# Altium footprint library pulseox-main-PCBLib.PcbLib: 18 footprints (part 1 of 2)
Each footprint in its own frame and in the unit in brackets; x right, y up, seen from the top. Pads: shape width x height; smd on the part's side, far side on the other; paste and mask are expansions set on the pad; w line width, h text height; cw(c..) or ccw(c..) is an arc to the next point about the centre after c.
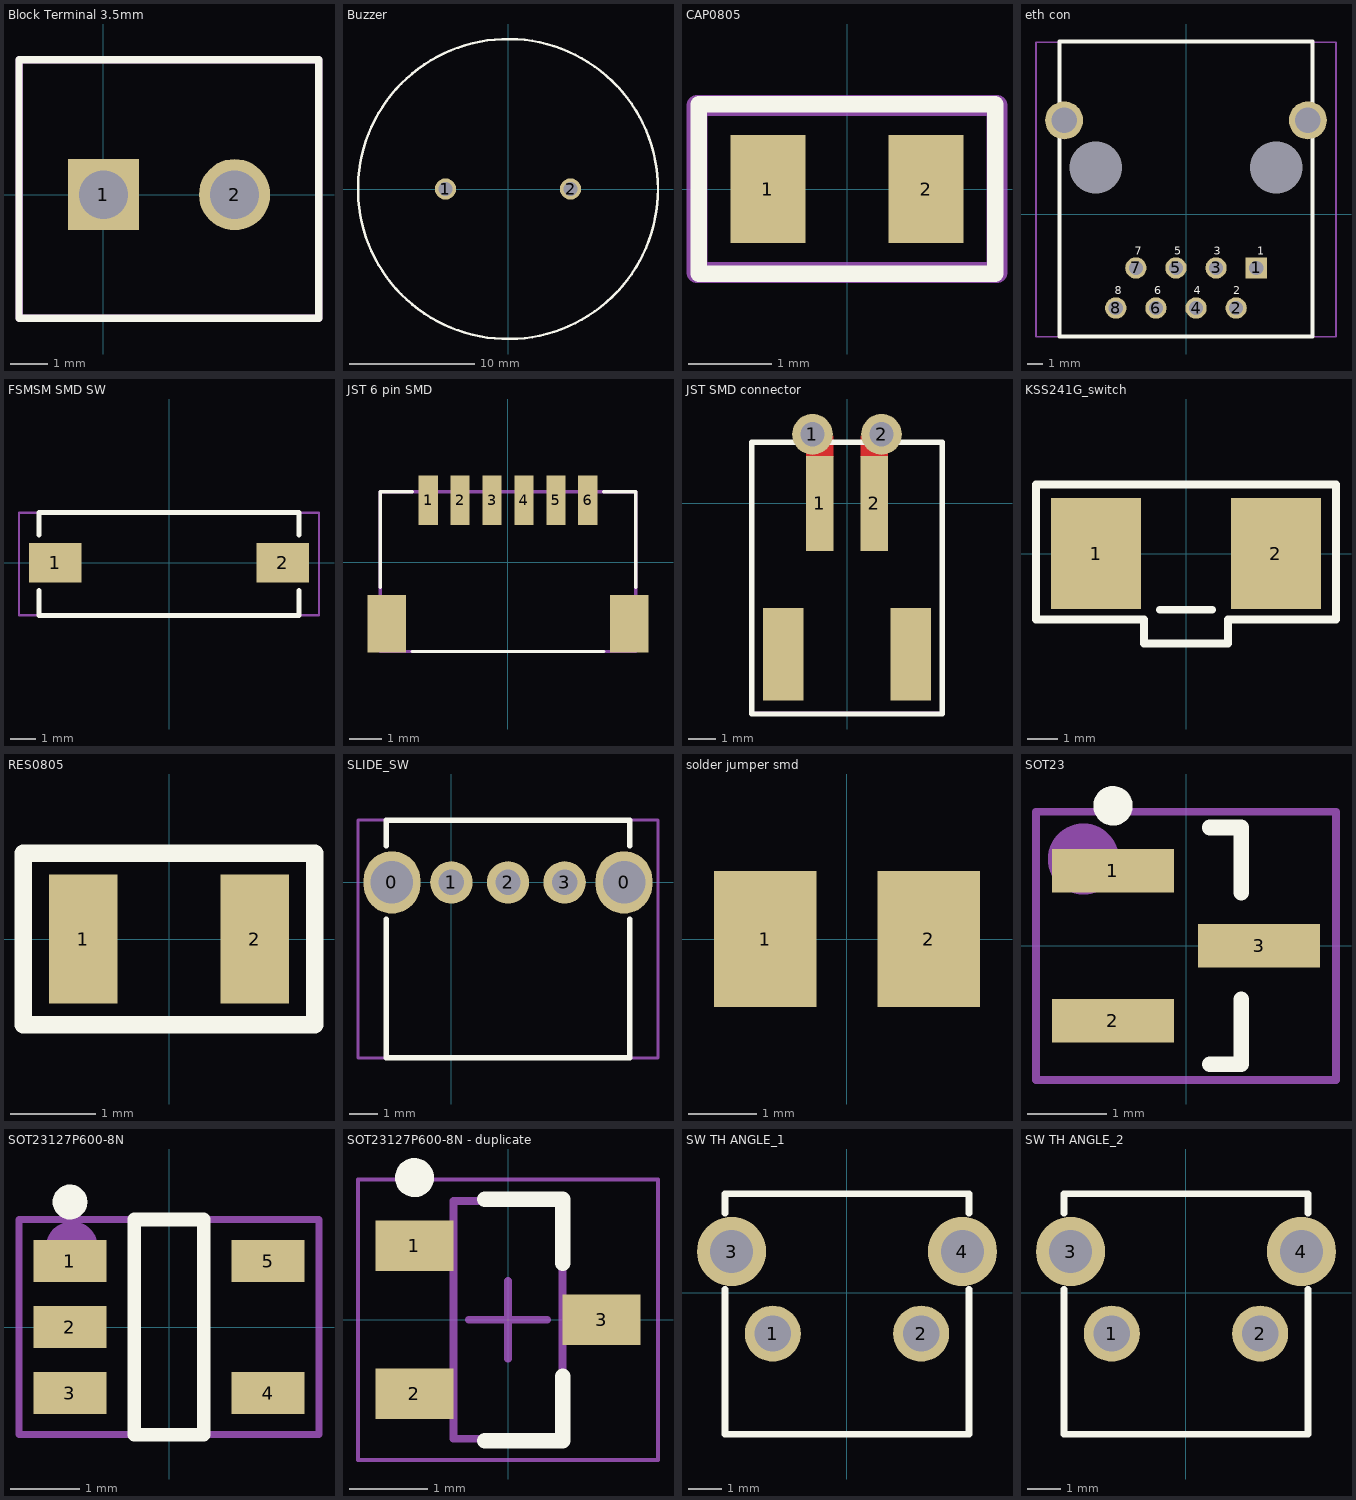
[diagram p0: the footprints below, top view; thin cyan lines are the x and y axes]

## Block Terminal 3.5mm [mm]
pads (2):
  rect 1.9x1.9 hole 1.3: 1(0,0)
  round 1.9 hole 1.3: 2(3.5,0)
Top Overlay:
  lines w0.2: -2.25,-3.3 5.75,-3.3 5.75,3.6 -2.25,3.6 -2.25,-3.3
Mechanical 29:
  circle w0.254: c-0.72,-0.63 r0.1
  lines w0.2: -2.25,-3.3 -2.25,3.6 5.75,3.6 5.75,-3.3 -2.25,-3.3
  text ".Designator" at -0.05,1.5 h1.52
3D body "block-terminal-2way-3.5mm.stp": height 8.31, standoff -4.19, extent -2.25,-3.4 5.75,3.6

## Buzzer [mm]
pads (2):
  round 1.7 hole 1.1: 1(-5,0) 2(5,0)
Top Overlay:
  circle w0.2: c0,0 r12
Mechanical 29:
  circle w0.1: c0,0 r12
  text ".Designator" at -2,-1 h1.2
3D body "buzz.stp": height 7.31, standoff -5.99, extent -12,-12 12,12

## CAP0805 [mm]
pads (2):
  rect 0.9x1.3 smd: 1(-0.95,0) 2(0.95,0)
Top Overlay:
  lines w0.2: -1.778,-1.016 1.778,-1.016 1.778,1.016 -1.778,1.016 -1.778,-1.016
Mechanical 29:
  lines w0.254: -1.8,-1 1.8,-1 1.8,1 -1.8,1 -1.8,-1
  text ".Designator" at -1.143,-0.381 h0.8
3D body "CAPC2012X95N EIA 0805.step": height 0.95, standoff 0, extent -1,-0.6 1,0.6
3D body "CAPC2012X95N EIA 0805.step": height 1.5, standoff 0.55, extent -1,-0.6 1,0.6

## eth con [mm]
pads (12):
  rect 1.35x1.35 hole 0.9: 1(4.445,-3.405)
  round 1.35 hole 0.9: 2(3.175,-5.945) 3(1.905,-3.405) 4(0.635,-5.945) 5(-0.635,-3.405) 6(-1.905,-5.945) 7(-3.175,-3.405) 8(-4.445,-5.945)
  round 2.4 hole 1.6: ""(-7.715,5.945) ""(7.715,5.945)
  round 0 hole 3.3 unplated: ""(-5.715,2.945) ""(5.715,2.945)
Top Overlay:
  lines w0.254: -8.02,-7.755 -8.02,10.945 8.02,10.945 8.02,-7.755 -8.02,-7.755
  text "1" at 4.5,-2.555 h0.5
  text "2" at 3,-5.055 h0.5
  text "4" at 0.5,-5.055 h0.5
  text "5" at -0.75,-2.555 h0.5
  text "6" at -2,-5.055 h0.5
  text "7" at -3.25,-2.555 h0.5
  text "8" at -4.5,-5.055 h0.5
  text "3" at 1.75,-2.555 h0.5
Mechanical 29:
  lines w0.1: -9.5,-7.755 -9.5,10.9 9.5,10.9 9.5,-7.755 -9.5,-7.755
  text "'.Designator'" at -4.285,2.945 h0.8
3D body "7499211002A.stp": height 15.55, standoff -3.38, extent -10.14,-7.92 10.14,13.92

## FSMSM SMD SW [mm]
pads (2):
  rect 2.11x1.6 smd: 1(-4.555,0) 2(4.555,0)
Top Overlay:
  lines w0.2: -5.2,-1.1 -5.2,-2.1 5.2,-2.1 5.2,-1.1 ; -5.2,1.1 -5.2,2 5.2,2 5.2,1.1
Mechanical 29:
  lines w0.1: -6,-2.1 -6,2 6,2 6,-2.1 -6,-2.1
  text ".Designator" at -2.1,-0.4 h0.8
3D body "fsmsm.stp": height 4.43, standoff 0.01, extent -4.984,-1.75 4.985,1.75

## JST 6 pin SMD [mm]
pads (8):
  rect 0.6x1.55 smd: 1(-2.5,1.938) 2(-1.5,1.938) 3(-0.5,1.938) 4(0.5,1.938) 5(1.5,1.938) 6(2.5,1.938)
  rect 1.2x1.8 smd: ""(-3.8,-1.937) ""(3.8,-1.937)
Top Overlay:
  lines w0.1: -4,-0.8 -4,2.2 -3,2.2 ; -3,-2.8 3,-2.8 ; 3,2.2 4,2.2 4,-0.8
Mechanical 29:
  lines w0.1: -4,-2.8 4,-2.8 4,2.2 -4,2.2 -4,-2.8
  text ".Designator" at -1.6,-0.7 h1.2
3D body "SM06B-SRSS-TB.STEP": height 2.97, standoff 0.01, extent -4,-2.757 4,2.193

## JST SMD connector [mm]
pads (6):
  round 1.5 hole 0.9: 1(-1.27,2.54) 2(1.27,2.54)
  rect 1x3.5 smd: 1(-1,0) 2(1,0)
  rect 1.5x3.4 smd: ""(-2.35,-5.55) ""(2.35,-5.55)
Top Layer:
  rectangle: -1.5,1.7 -0.5,2.5
  rectangle: 0.5,1.7 1.5,2.5
Top Overlay:
  lines w0.2: -3.5,-7.75 3.5,-7.75 3.5,2.25 -3.5,2.25 -3.5,-7.75
Mechanical 29:
  lines w0.1: -3.5,-7.7 3.5,-7.7 3.5,2.2 -3.5,2.2 -3.5,-7.7
  text ".Designator" at -2.2,-3.1 h1.2
3D body "JST_SM02B-SRSS-TB.step": height 3.01, standoff 0.01, extent -1.988,-6.493 2,-1.507

## KSS241G_switch [mm] "KSS241G SMT Side Actuated Switch"
height 1.7
pads (2):
  rect 3x3.7 smd: 1(-3,0) 2(3,0)
Top Overlay:
  lines w0.254: -0.875,-1.875 0.875,-1.875 ; -0.85,2.3 0.9,2.3 5,2.3 5,-2.1 5,-2.2 1.4,-2.2 1.4,-3 -1.4,-3 -1.4,-2.2 -5,-2.2 -5,2.3 -0.8,2.3
Mechanical 29:
  lines w0.1: -5,-2.2 -5,2.3 5,2.3 5,-2.2 1.4,-2.2 1.4,-3 -1.4,-3 -1.4,-2.2 -5,-2.2
  text ".Designator" at -2.3,-0.5 h1.2
3D body: height 1.7, standoff 0.1, extent -1.25,-2.794 1.25,-1.905
3D body: height 1.7, standoff 0.1, extent -2.794,-1.905 2.794,1.905

## RES0805 [mm]
pads (2):
  rect 0.8x1.5 smd: 1(-1,0) 2(1,0)
Top Overlay:
  lines w0.2: -1.7,-1 1.7,-1 1.7,1 -1.7,1 -1.7,-1
Mechanical 29:
  lines w0.1: -1.7,-1 1.7,-1 1.7,1 -1.7,1 -1.7,-1
  text ".Designator" at -1,-0.3 h0.8
3D body "RES-0805.step": height 0.76, standoff 0, extent -1.15,-0.675 1.15,0.675

## SLIDE_SW [mm]
pads (5):
  oval 2x2.2 hole 1.5: 0(-2.1,0) 0(6.1,0)
  round 1.5 hole 0.9: 1(0,0) 2(2,0) 3(4,0)
Top Overlay:
  lines w0.2: -2.3,-1.3 -2.3,-6.2 6.3,-6.2 6.3,-1.3 ; -2.3,1.3 -2.3,2.2 6.3,2.2 6.3,1.3
Mechanical 29:
  lines w0.1: -3.3,-6.2 -3.3,2.2 7.3,2.2 7.3,-6.2 -3.3,-6.2
  text ".Designator" at 0.2,-2.8 h0.8
3D body "CK_Slide.step": height 4.71, standoff -2.78, extent -2.305,-6.172 6.305,2.2

## solder jumper smd [mm]
pads (2):
  rect 1.5x2 smd: 1(-1.2,0) 2(1.2,0)

## SOT23 [mm]
pads (3):
  rect 1.55x0.55 smd: 1(-0.925,0.95) 2(-0.925,-0.95) 3(0.925,0)
Top Overlay:
  circle w0.25: c-0.925,1.775 r0.125
  lines w0.2: 0.3,-1.5 0.7,-1.5 0.7,-0.675 ; 0.3,1.5 0.7,1.5 0.7,0.675
Mechanical 29:
  circle w0.7: c-1.3,1.1 r0.1
  lines w0.1: -1.9,-1.7 1.9,-1.7 1.9,1.7 -1.9,1.7 -1.9,-1.7
  text ".Designator" at -1.4,-0.5 h0.8
3D body "SOT-23.step": height 1.11, standoff 0.01, extent -1.25,-1.5 1.25,1.5

## SOT23127P600-8N [mm]
height 1.45
pads (5):
  rect 1.05x0.6 smd: 1(-1.425,0.95) 2(-1.425,0) 3(-1.425,-0.95) 4(1.425,-0.95) 5(1.425,0.95)
Top Overlay:
  circle w0.25: c-1.425,1.8 r0.125
  lines w0.2: -0.5,-1.55 -0.5,1.55 0.5,1.55 0.5,-1.55 -0.5,-1.55
Mechanical 29:
  circle w0.5: c-1.397,1.143 r0.127
  lines w0.1: -2.159,-1.55 2.159,-1.55 2.159,1.55 -2.159,1.55 -2.159,-1.55
  text ".Designator" at -1.143,-0.508 h1.2
3D body "SOT23127P600-8N.step": height 1.45, standoff 0, extent -1.7,-1.55 1.7,1.55

## SOT23127P600-8N - duplicate [mm]
height 1.12
pads (3):
  rect 1x0.65 smd: 1(-1.2,0.95) 2(-1.2,-0.95) 3(1.2,0)
Top Overlay:
  circle w0.25: c-1.2,1.825 r0.125
  lines w0.2: -0.3,-1.55 0.7,-1.55 0.7,-0.725 ; -0.3,1.55 0.7,1.55 0.7,0.725
Mechanical 13:
  lines w0.1: -0.7,-1.525 -0.7,1.525 0.7,1.525 0.7,-1.525 -0.7,-1.525
Mechanical 15:
  lines w0.05: -1.925,-1.8 -1.925,1.8 1.925,1.8 1.925,-1.8 -1.925,-1.8
  lines w0.1: -0.5,0 0.5,0 ; 0,-0.5 0,0.5
3D body "SOT23127P600-8N.step": height 1.12, standoff 0, extent -1.39,-1.525 1.39,1.525

## SW TH ANGLE_1 [mm]
pads (4):
  round 1.7 hole 1.1 paste+0 mask+0: 1(-2.25,-1.245) 2(2.25,-1.245)
  round 2.1 hole 1.3 paste+0 mask+0: 3(-3.5,1.245) 4(3.5,1.245)
Top Overlay:
  lines w0.2: -3.7,0.1 -3.7,-4.3 3.7,-4.3 3.7,0.1 ; -3.7,2.4 -3.7,3 3.7,3 3.7,2.4
3D body "User Library-SWITCH, TACTILE, RIGHT ANGLE, 12VDC, 50MA, 6_85MM ACTUATOR, WEALTH METAL TC-0244Z.step": height 7, standoff -4, extent -3.7,-8.15 3.7,2.85

## SW TH ANGLE_2 [mm]
pads (4):
  round 1.7 hole 1.1 paste+0 mask+0: 1(-2.25,-1.245) 2(2.25,-1.245)
  round 2.1 hole 1.3 paste+0 mask+0: 3(-3.5,1.245) 4(3.5,1.245)
Top Overlay:
  lines w0.2: -3.7,0.1 -3.7,-4.3 3.7,-4.3 3.7,0.1 ; -3.7,2.4 -3.7,3 3.7,3 3.7,2.4
3D body "User Library-SWITCH, TACTILE, RIGHT ANGLE, 12VDC, 50MA, 3_15MM ACTUATOR, WEALTH METAL TC-0240Z.step": height 7, standoff -4, extent -3.7,-4.35 3.7,2.95